# Altium schematic symbol library Components - 23.08.23 - 12.03.SchLib: 1 symbol
Pins are listed as number, name and electrical type; pins without a type are passive.

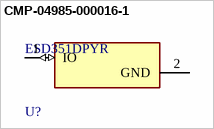
[diagram p0: symbol CMP-04985-000016-1]

## CMP-04985-000016-1
designator U?, comment ESD351DPYR
GENERAL PURPOSE ESD PROTECTION; Peak Pulse Current: 16A; Min Breakdown Voltage: 4.5V; Clamping Voltage: 6.5V; Power Line Protection: No; Number of Unidirectional Channels: 1; Reverse Standoff Voltage: 3.6V; Peak Pulse Power: 36W; Resistor Type: Zener; RoHS Compliant: Yes; Case Code (Metric): 1006; Mount: Surface Mount; Case/Package: 0402; Min Operating Temperature: -40°C; Packaging: Cut Tape; Max Operating Temperature: 125°C; Case Code (Imperial): 0402
footprint FP-DPY0002A-MFG
pins: 1 IO (io), 2 GND (power)